# EAGLE library part LM358_D_8 (library DECADE-libraries)
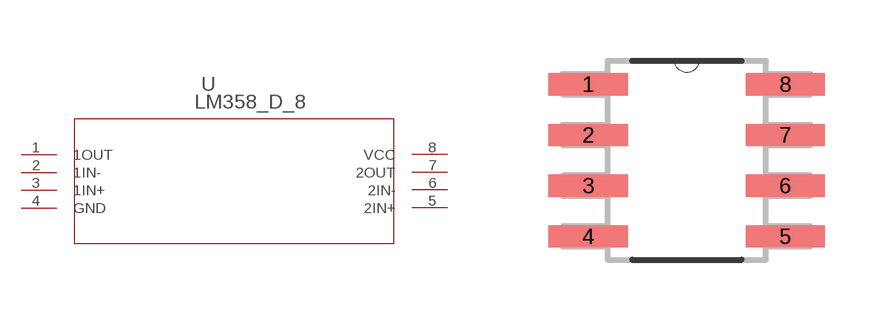
[diagram p23: symbol with the pads of D8; footprint D8]

Designator prefix U

## LM358_D_8 (DATASHEETURL: http://www.ti.com/lit/gpn/LM358; DESCRIPTION: Dual Operational Amplifiers; FAMILY_NAME: STANDARD LINEAR AMPLIFIER; GENERIC_PART_NUMBER: LM358; INDUSTRY_STD_PKG_TYPE: SOIC; MANUFACTURER: Texas Instruments; PACKAGE_DESIGNATOR: D; PIN_COUNT: 8)  [D8]
1  1OUT  out
2  1IN-  in
3  1IN+  in
4  GND  pwr
5  2IN+  in
6  2IN-  in
7  2OUT  out
8  VCC  pwr

## Footprint D8 (pad centres in mm)
smd 1.981 x 0.559: 1 -2.464,1.905; 2 -2.464,0.635; 3 -2.464,-0.635; 4 -2.464,-1.905; 5 2.464,-1.905; 6 2.464,-0.635; 7 2.464,0.635; 8 2.464,1.905